# EAGLE library part POLOLU-DRV882X (library synfinatic)
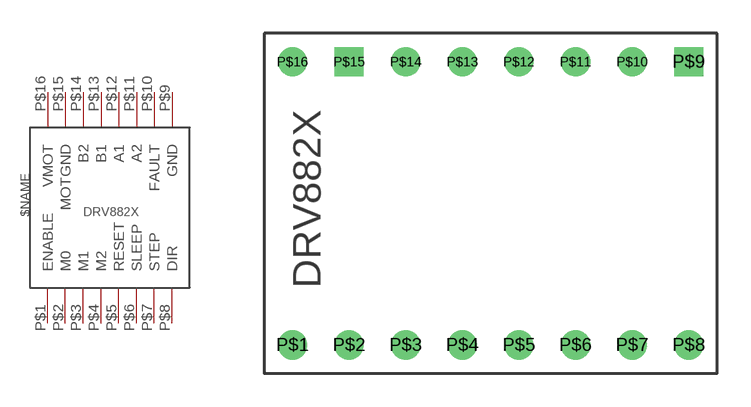
[diagram p8: symbol with the pads of POLOLU-DRV; footprint POLOLU-DRV]

Designator prefix -

## POLOLU-DRV882X  [POLOLU-DRV]
P$1  ENABLE
P$2  M0
P$3  M1
P$4  M2
P$5  RESET
P$6  SLEEP
P$7  STEP
P$8  DIR
P$9  GND
P$10  FAULT
P$11  A2
P$12  A1
P$13  B1
P$14  B2
P$15  MOTGND
P$16  VMOT

## Footprint POLOLU-DRV (pad centres in mm)
drill 0.8: P$1 1.27,1.27; P$2 3.81,1.27; P$3 6.35,1.27; P$4 8.89,1.27; P$5 11.43,1.27; P$6 13.97,1.27; P$7 16.51,1.27; P$8 19.05,1.27; P$10 16.51,13.97; P$11 13.97,13.97; P$12 11.43,13.97; P$13 8.89,13.97; P$14 6.35,13.97; P$16 1.27,13.97
drill 0.8 square: P$9 19.05,13.97; P$15 3.81,13.97